# EAGLE library part ADT7420UCPZ-R2 (library farnell-parts)
TEMP SENSOR, 16BIT, +/-0.25C, 16LFCSP
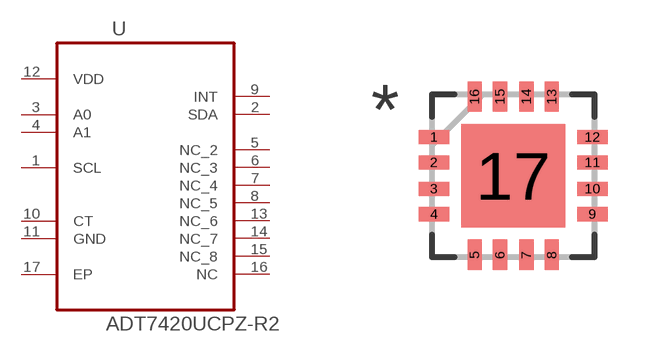
[diagram p8: symbol with the pads of QFN65P400X400X80-17N; footprint QFN65P400X400X80-17N]

Designator prefix U

## ADT7420UCPZ-R2 (MPN: ADT7420UCPZ-R2; OC_FARNELL: 2306581; OC_NEWARK: 66W1259; PACKAGE: 16LFCSP; SUPPLIER: ANALOG DEVICES)  [QFN65P400X400X80-17N]
1  SCL  in
2  SDA  out
3  A0  in
4  A1  in
5  NC_2  nc
6  NC_3  nc
7  NC_4  nc
8  NC_5  nc
9  INT  out
10  CT  in
11  GND  pas
12  VDD  pwr
13  NC_6  nc
14  NC_7  nc
15  NC_8  nc
16  NC  nc
17  EP  pas

## Footprint QFN65P400X400X80-17N (pad centres in mm)
smd 0.762 x 0.356: 1 -1.981,0.965; 2 -1.981,0.33; 3 -1.981,-0.33; 4 -1.981,-0.965; 9 1.981,-0.965; 10 1.981,-0.33; 11 1.981,0.33; 12 1.981,0.965
smd 0.356 x 0.762: 5 -0.965,-1.981; 6 -0.33,-1.981; 7 0.33,-1.981; 8 0.965,-1.981; 13 0.965,1.981; 14 0.33,1.981; 15 -0.33,1.981; 16 -0.965,1.981
smd 2.591 x 2.591: 17 0,0